# Altium schematic symbol library SPB_Electrolytic_Capacitors.SchLib: 6 symbols
Pins are listed as number, name and electrical type; pins without a type are passive.

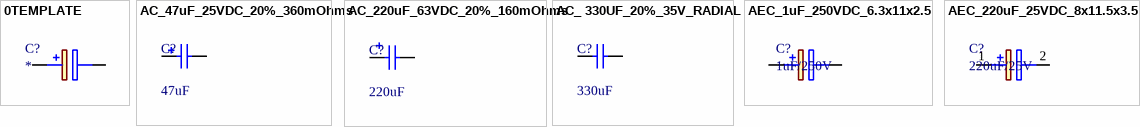
[diagram p0: symbols 0TEMPLATE to AEC_220uF_25VDC_8x11.5x3.5]

## 0TEMPLATE
designator C?
Supplier 1: Mouser; Supplier 2: Digi-Key; Supplier Part Number 2: *; Supplier Part Number 1: *; Manufacturer Part Number: *; Mouser Part #: *; Digi-Key Part Number: *; Value: *
pins: 1 +, 2 -

## AC_47uF_25VDC_20%_360mOhms
designator C?, comment 47uF
Aluminium Electrolytic Capacitors - SMD 47uF 25V; Manufacturer Part Number: EEE-FK1E470P; Value: 47uF; Mouser Part #: 667-EEE-FK1E470P; Digi-Key Part Number: PCE3804CT-ND
footprint CAPAE660X540N (Capacitor, Aluminium Electrolytric, 6.6mm L X 6.6mm W X 5.4mm H, IPC Medium Density)
pins: 1, 2

## AC_220uF_63VDC_20%_160mOhms
designator C?, comment 220uF
220µF 63V Aluminum Electrolytic Capacitors Radial, Can - SMD 5000 Hrs @ 105°C; Manufacturer Part Number: EEV-FK1J221Q; Value: 220uF; Mouser Part #: 667-EEV-FK1J221Q; Digi-Key Part Number: PCE3484CT-ND
footprint CAPAE138135X135M (Aluminum Electrolytic Capacitor, Body 14.25x13.50x13.50mm, IPC Low Density)
pins: 1, 2

## AC_ 330UF_20%_35V_RADIAL
designator C?, comment 330uF
Electrolytic Capacitors - SMD 470uF 35V; Manufacturer Part Number: ECA-1VM331; Value: 330uF; Mouser Part #: 667-ECA-1VM331; Digi-Key Part Number: P5167-ND
footprint RB5-10.5 (Capacitor (Radial); 2 Leads)
footprint Top&Bottom_pads
pins: 1, 2

## AEC_1uF_250VDC_6.3x11x2.5
designator C?, comment 1uF/250V
Aluminium Electrolytic Capacitors - Radial Leaded 250V 1uF 85C 2k Hour Radial; Manufacturer Part Number: ESK105M250AE3AA; Supplier 1: Mouser; Supplier 2: Digi-Key; Supplier Part Number 1: *; Mouser Part #: 80-ESK105M250AE3AA; Digi-Key Part Number: *; Supplier Part Number 2: 80-ESK105M250AE3AA; Value: 1uF/250V
footprint RAD-6.3X11X2.5 (Radial Cap, Thru-Hole; 2 Leads; 0.1inch in Pin Spacing)
pins: 1 +, 2 -

## AEC_220uF_25VDC_8x11.5x3.5
designator C?, comment 220uF/25V
Aluminium Electrolytic Capacitors - Radial Leaded 25V 220uF 105C 8x11.5mm; Manufacturer Part Number: RGA221M1EBK0811G; Supplier 1: Mouser; Supplier 2: Digi-Key; Supplier Part Number 2: 140-RGA221M1EBK0811G; Supplier Part Number 1: *; Mouser Part #: 140-RGA221M1EBK0811G; Digi-Key Part Number: *; Value: 220uF/25V
footprint RAD-8X11.5X3.5
pins: 1 +, 2 -